# Altium footprint library ebf_mp157 s1 dev board_20210223_PCB封装_AD格式.PcbLib: 69 footprints (part 2 of 5)
Each footprint in its own frame and in the unit in brackets; x right, y up, seen from the top. Pads: shape width x height; smd on the part's side, far side on the other; paste and mask are expansions set on the pad; w line width, h text height; cw(c..) or ccw(c..) is an arc to the next point about the centre after c.
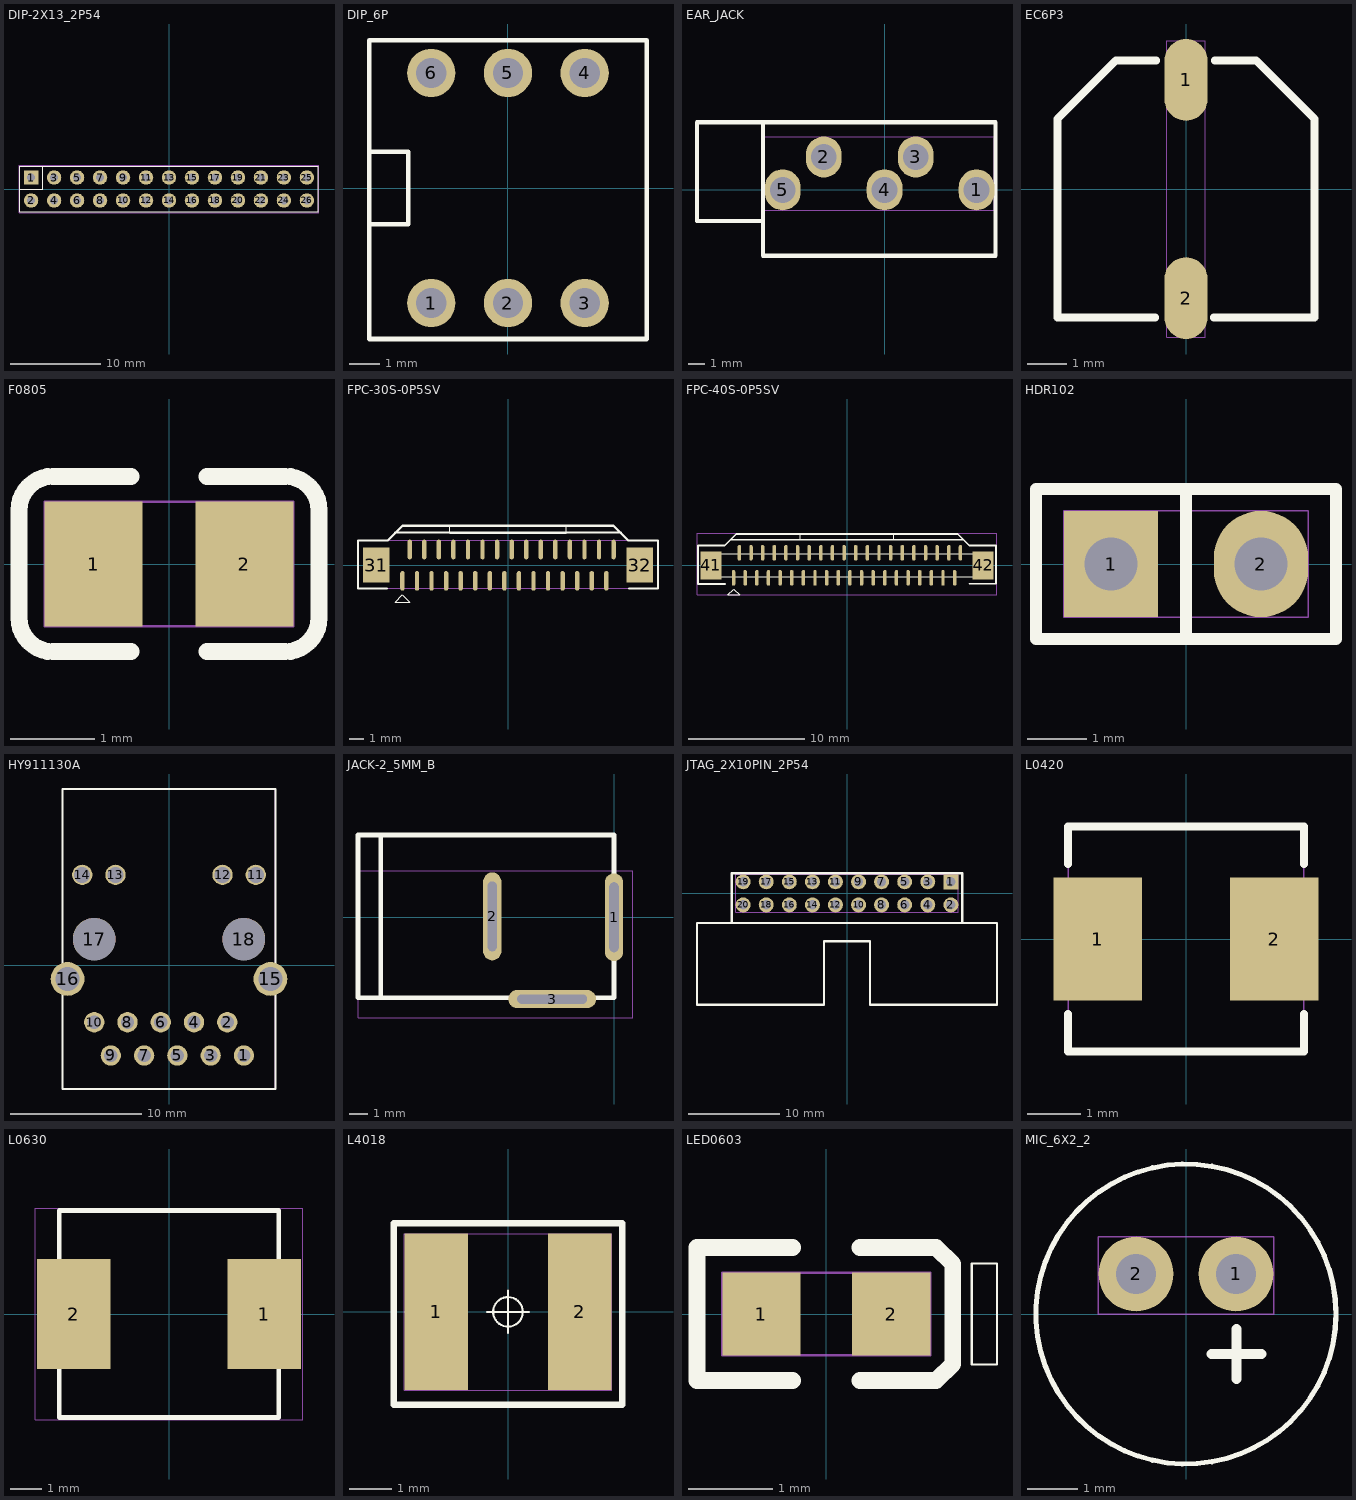
[diagram p1: the footprints below, top view; thin cyan lines are the x and y axes]

## DIP-2X13_2P54 [mm]
pads (26):
  rect 1.6x1.6 hole 0.9 mask+0.051: 1(-15.24,1.27)
  round 1.6 hole 0.9 mask+0.051: 2(-15.24,-1.27) 3(-12.7,1.27) 4(-12.7,-1.27) 5(-10.16,1.27) 6(-10.16,-1.27) 7(-7.62,1.27) 8(-7.62,-1.27) 9(-5.08,1.27) 10(-5.08,-1.27) 11(-2.54,1.27) 12(-2.54,-1.27) 13(0,1.27) 14(0,-1.27) 15(2.54,1.27) 16(2.54,-1.27) 17(5.08,1.27) 18(5.08,-1.27) 19(7.62,1.27) 20(7.62,-1.27) 21(10.16,1.27) 22(10.16,-1.27) 23(12.7,1.27) 24(12.7,-1.27) 25(15.24,1.27) 26(15.24,-1.27)
Top Overlay:
  lines w0.127: -16.51,0 -13.97,0 -13.97,2.54 ; -16.51,-2.54 -16.51,2.54 16.51,2.54 16.51,-2.54 -16.51,-2.54
Top Assembly:
  text "J2" at 0.889,0.635 h1.27
Mechanical 20:
  lines w0.025: -16.573,-2.603 16.573,-2.603 16.573,2.603 -16.573,2.603 -16.573,-2.603

## DIP_6P [mm]
pads (6):
  round 1.6 hole 1 mask+0.05: 1(-2.54,-3.81) 2(0,-3.81) 3(2.54,-3.81) 4(2.54,3.81) 5(0,3.81) 6(-2.54,3.81)
Top Overlay:
  lines w0.025: -4.57,-4.96 4.601,-4.96 4.601,4.934 -4.57,4.934 -4.57,-4.96
  lines w0.15: -4.6,-1.2 -3.3,-1.2 -3.3,1.2 -4.6,1.2 ; -4.6,-5 4.6,-5 4.6,4.9 -4.6,4.9 -4.6,-5
Top Assembly:
  text "SW6" at -1.69,-0.635 h1.27
Mechanical 20:
  lines w0.025: -4.6,-5 4.6,-5 4.6,4.9 -4.6,4.9 -4.6,-5

## EAR_JACK [mil]
pads (5):
  oval 86x98 hole 62 mask+2: 1(220.47,0) 2(-145.67,78.74) 3(74.8,78.74) 4(0,0) 5(-244.1,0)
Top Overlay:
  lines w10: -294.49,-75.03 -449.49,-75.03 -449.49,161.97 -294.49,161.97 ; -291.49,-158.03 -291.49,161.97 265.51,161.97 265.51,-158.03 -291.49,-158.03
Top Assembly:
  text "J26" at 56.06,25 h50
Mechanical 20:
  lines w1: -287.1,-49 263.47,-49 263.47,127.74 -287.1,127.74 -287.1,-49

## EC6P3 [mm]
pads (2):
  oval 1.102x2.102 smd: 1(0,2.8) 2(0,-2.8)
Top Overlay:
  lines w0.2: -0.787,-3.3 -3.3,-3.3 -3.3,1.8 -1.8,3.3 -0.762,3.3 ; 0.711,-3.3 3.3,-3.3 3.3,1.8 1.8,3.3 0.737,3.3
Top Assembly:
  text "C3" at -1.055,-0.635 h1.27
Mechanical 20:
  lines w0.025: -0.5,-3.8 0.5,-3.8 0.5,3.8 -0.5,3.8 -0.5,-3.8

## F0805 [mm]
pads (2):
  rect 1.16x1.47 smd mask+0.051: 1(-0.89,0) 2(0.89,0)
Top Overlay:
  lines w0.2: -0.45,-1.035 -1.37,-1.035 cw(c-1.37,-0.635) -1.77,-0.635 -1.77,0.635 cw(c-1.37,0.635) -1.37,1.035 -0.45,1.035 ; 0.45,-1.035 1.37,-1.035 ccw(c1.37,-0.635) 1.77,-0.635 1.77,0.635 ccw(c1.37,0.635) 1.37,1.035 0.45,1.035
Top Assembly:
  text "F1" at -0.617,-0.635 h1.27
Mechanical 20:
  lines w0.025: -1.47,-0.735 1.47,-0.735 1.47,0.735 -1.47,0.735 -1.47,-0.735

## FPC-30S-0P5SV [mm]
pads (32):
  oval 0.3x1.35 smd mask+0.05: 1(-7.25,-1.076) 2(-6.75,1.076) 3(-6.25,-1.076) 4(-5.75,1.076) 5(-5.25,-1.076) 6(-4.75,1.076) 7(-4.25,-1.076) 8(-3.75,1.076) 9(-3.25,-1.076) 10(-2.75,1.076) 11(-2.25,-1.076) 12(-1.75,1.076) 13(-1.25,-1.076) 14(-0.75,1.076) 15(-0.25,-1.076) 16(0.25,1.076) 17(0.75,-1.076) 18(1.25,1.076) 19(1.75,-1.076) 20(2.25,1.076) 21(2.75,-1.076) 22(3.25,1.076) 23(3.75,-1.076) 24(4.25,1.076) 25(4.75,-1.076) 26(5.25,1.076) 27(5.75,-1.076) 28(6.25,1.076) 29(6.75,-1.076) 30(7.25,1.076)
  rect 1.8x2.4 smd mask+0.05: 31(-9.05,0) 32(9.05,0)
Top Overlay:
  lines w0.025: -7.754,-2.548 -7.246,-2.04 -6.738,-2.548 -7.754,-2.548 ; -4,2.208 4,2.208 4,2.708 -4,2.708 -4,2.208
  lines w0.15: -10.3,-1.597 -8.3,-1.597 ; -7.75,2.25 7.75,2.25
  lines w0.152: -10.3,-1.597 -10.3,1.7 -8.25,1.7 -7.25,2.7 7.25,2.7 8.25,1.7 10.3,1.7 10.3,-1.6 8.3,-1.6
Top Assembly:
  text "J20" at -1.454,-0.635 h1.27
Mechanical 20:
  lines w0.025: -10.3,-1.6 10.3,-1.6 10.3,1.7 -10.3,1.7 -10.3,-1.6

## FPC-40S-0P5SV [mm]
pads (42):
  oval 0.3x1.35 smd mask+0.05: 1(-9.75,-1.076) 2(-9.25,1.076) 3(-8.75,-1.076) 4(-8.25,1.076) 5(-7.75,-1.076) 6(-7.25,1.076) 7(-6.75,-1.076) 8(-6.25,1.076) 9(-5.75,-1.076) 10(-5.25,1.076) 11(-4.75,-1.076) 12(-4.25,1.076) 13(-3.75,-1.076) 14(-3.25,1.076) 15(-2.75,-1.076) 16(-2.25,1.076) 17(-1.75,-1.076) 18(-1.25,1.076) 19(-0.75,-1.076) 20(-0.25,1.076) 21(0.25,-1.076) 22(0.75,1.076) 23(1.25,-1.076) 24(1.75,1.076) 25(2.25,-1.076) 26(2.75,1.076) 27(3.25,-1.076) 28(3.75,1.076) 29(4.25,-1.076) 30(4.75,1.076) 31(5.25,-1.076) 32(5.75,1.076) 33(6.25,-1.076) 34(6.75,1.076) 35(7.25,-1.076) 36(7.75,1.076) 37(8.25,-1.076) 38(8.75,1.076) 39(9.25,-1.076) 40(9.75,1.076)
  rect 1.8x2.4 smd mask+0.05: 41(-11.691,0) 42(11.691,0)
Top Overlay:
  lines w0.025: -11.8,-1 11.8,-1 11.8,1 -11.8,1 -11.8,-1 ; -10.254,-2.548 -9.746,-2.04 -9.238,-2.548 -10.254,-2.548 ; -4,2.208 4,2.208 4,2.708 -4,2.708 -4,2.208
  lines w0.152: -10.489,-1.597 -12.8,-1.597 -12.8,1.7 ; -10,2.2 10,2.2 ; 10.51,-1.58 12.8,-1.58 12.8,-0.9 12.8,1.7 ; -12.8,1.7 -12.8,1.701 ; -12.8,1.7 -10.5,1.7 -9.5,2.7 9.5,2.7 10.5,1.7 12.8,1.7 ; 12.8,1.7 12.8,1.701
Top Assembly:
  text "J32" at 1.454,0.635 h1.27
Mechanical 20:
  lines w0.025: -12.876,-2.548 12.876,-2.548 12.876,2.776 -12.876,2.776 -12.876,-2.548

## HDR102 [mm]
pads (2):
  rect 1.6x1.8 / inner oval 1.6x1.8 / far side rect 1.6x1.8 hole 0.9 mask+0.05: 1(-1.27,0)
  oval 1.6x1.8 hole 0.9 mask+0.05: 2(1.27,0)
Top Overlay:
  lines w0.203: 0,-1.27 0,1.27 ; -2.54,-1.27 2.54,-1.27 2.54,1.27 -2.54,1.27 -2.54,-1.27
Top Assembly:
  text "J9" at -0.859,-0.635 h1.27
Mechanical 20:
  lines w0.025: -2.07,-0.9 2.07,-0.9 2.07,0.9 -2.07,0.9 -2.07,-0.9

## HY911130A [mil]
pads (18):
  round 60.98 hole 40 mask+1.97: 1(225.2,-271.46) 2(175.2,-171.46) 3(125.2,-271.46) 4(75.2,-171.46) 5(25.2,-271.46) 6(-24.8,-171.46) 7(-74.8,-271.46) 8(-124.8,-171.46) 9(-174.8,-271.46) 10(-224.8,-171.46)
  round 60.98 hole 47.99 mask+1.97: 11(260.83,271.46) 12(160.83,271.46) 13(-160.83,271.46) 14(-260.83,271.46)
  round 101.61 hole 72.01 mask+1.97: 15(304.92,-41.54) 16(-304.92,-41.54)
  round 127.95 hole 127.95 unplated: 17(-225,78.54) 18(225,78.54)
Top Overlay:
  lines w1: -320,-372.24 320,-372.24 320,529.33 -320,529.33 -320,-372.24
  lines w5.91: -320.08,-372.05 -320.08,529.53 320.08,529.53 320.08,-372.05 -320.08,-372.05
Top Assembly:
  text "J21" at -46.54,-25 h50
Mechanical 20:
  lines w1: -320,-372.24 320,-372.24 320,529.33 -320,529.33 -320,-372.24

## JACK-2_5MM_B [mm]
pads (3):
  oval 1x4.81 / inner oval 1x4.81 / far side oval 2x4.81 hole 0.5 slot 3.81 at 90 deg mask+0.05: 1(0,0) 2(-6.659,0.046)
  oval 4.81x1 / inner oval 4.81x1 / far side oval 4.81x2 hole 0.5 slot 3.81 at 0 deg mask+0.05: 3(-3.383,-4.476)
Top Overlay:
  lines w0.254: -12.755,-4.349 -12.755,4.501 ; -14,-4.399 -14,4.501 0,4.501 0,-4.399 -14,-4.399
Top Assembly:
  text "JACK1" at -2.446,-0.635 h1.27
Mechanical 20:
  lines w0.025: -14,-5.492 1.016,-5.492 1.016,2.535 -14,2.535 -14,-5.492

## JTAG_2X10PIN_2P54 [mil]
pads (20):
  rect 65x65 hole 40 mask+2: 1(450,50)
  round 65 hole 40 mask+2: 2(450,-50) 3(350,50) 4(350,-50) 5(250,50) 6(250,-50) 7(150,50) 8(150,-50) 9(50,50) 10(50,-50) 11(-50,50) 12(-50,-50) 13(-150,50) 14(-150,-50) 15(-250,50) 16(-250,-50) 17(-350,50) 18(-350,-50) 19(-450,50) 20(-450,-50)
Top Overlay:
  lines w10: -500,-128 -500,87.16 500,87.16 500,-128 ; -650,-483.07 -100,-483.07 -100,-207.48 100,-207.48 100,-483.07 650,-483.07 650,-128.74 -650,-128.74 -650,-483.07
Top Assembly:
  text "J3" at 34.99,25 h50
Mechanical 20:
  lines w1: -482.5,-82.5 482.5,-82.5 482.5,82.5 -482.5,82.5 -482.5,-82.5

## L0420 [mm]
pads (2):
  rect 1.65x2.3 smd mask+0.05: 1(-1.65,0) 2(1.65,0)
Top Overlay:
  lines w0.15: -2.2,-1.4 -2.2,-2.1 2.2,-2.1 2.2,-1.4 ; -2.2,1.4 -2.2,2.1 2.2,2.1 2.2,1.4
Top Assembly:
  text "L11" at -1.049,-0.635 h1.27
Mechanical 20:
  lines w0.025: -2.2,-2.1 2.2,-2.1 2.2,2.1 -2.2,2.1 -2.2,-2.1

## L0630 [mm]
pads (2):
  rect 2.35x3.5 smd mask+0.05: 1(3.035,0) 2(-3.035,0)
Top Overlay:
  lines w0.15: -3.5,-3.3 -3.5,3.3 3.5,3.3 3.5,-3.3 -3.5,-3.3
Top Assembly:
  text "L1" at -0.583,-0.635 h1.27
Mechanical 20:
  lines w0.025: -4.26,-3.375 4.26,-3.375 4.26,3.375 -4.26,3.375 -4.26,-3.375

## L4018 [mm]
pads (2):
  rect 1.5x3.7 smd mask+0.05: 1(-1.7,0) 2(1.7,0)
Top Overlay:
  circle w0.05: c0,0 r0.35
  lines w0.05: -0.5,0 0.5,0 ; 0,-0.5 0,0.5
  lines w0.152: -2.7,-2.2 2.7,-2.2 2.7,2.1 -2.7,2.1 -2.7,-2.2
Top Assembly:
  text "L6" at -0.825,-0.635 h1.27
Mechanical 20:
  lines w0.025: -2.45,-1.85 2.45,-1.85 2.45,1.85 -2.45,1.85 -2.45,-1.85

## LED0603 [mm]
pads (2):
  rect 0.93x0.98 smd mask+0.05: 1(-0.77,0) 2(0.77,0)
Top Overlay:
  lines w0.025: 1.725,-0.6 1.725,0.6 2.025,0.6 2.025,-0.6 1.725,-0.6
  lines w0.2: -0.4,-0.79 -1.535,-0.79 -1.535,0.79 -0.4,0.79 ; 0.4,-0.79 1.3,-0.79 1.5,-0.597 1.5,0.597 1.3,0.79 0.4,0.79
Top Assembly:
  text "D9" at 0.958,0.635 h1.27
Mechanical 20:
  lines w0.025: -1.235,-0.49 1.235,-0.49 1.235,0.49 -1.235,0.49 -1.235,-0.49

## MIC_6X2_2 [mil]
pads (2):
  round 59.06 hole 31.5 mask+2: 1(39.37,31.5) 2(-39.37,31.5)
Top Overlay:
  circle w4: c0,0 r118.11
  lines w7.87: 19.92,-31.61 59.29,-31.61 ; 39.61,-51.3 39.61,-11.93
Top Assembly:
  text "P1" at 28.21,25 h50
Mechanical 20:
  lines w1: -68.9,0 68.9,0 68.9,61.02 -68.9,61.02 -68.9,0